# Altium footprint library CapacitoresIntiSat.PCBLIB: 196 footprints (part 6 of 13)
Each footprint in its own frame and in the unit in brackets; x right, y up, seen from the top. Pads: shape width x height; smd on the part's side, far side on the other; paste and mask are expansions set on the pad; w line width, h text height; cw(c..) or ccw(c..) is an arc to the next point about the centre after c.
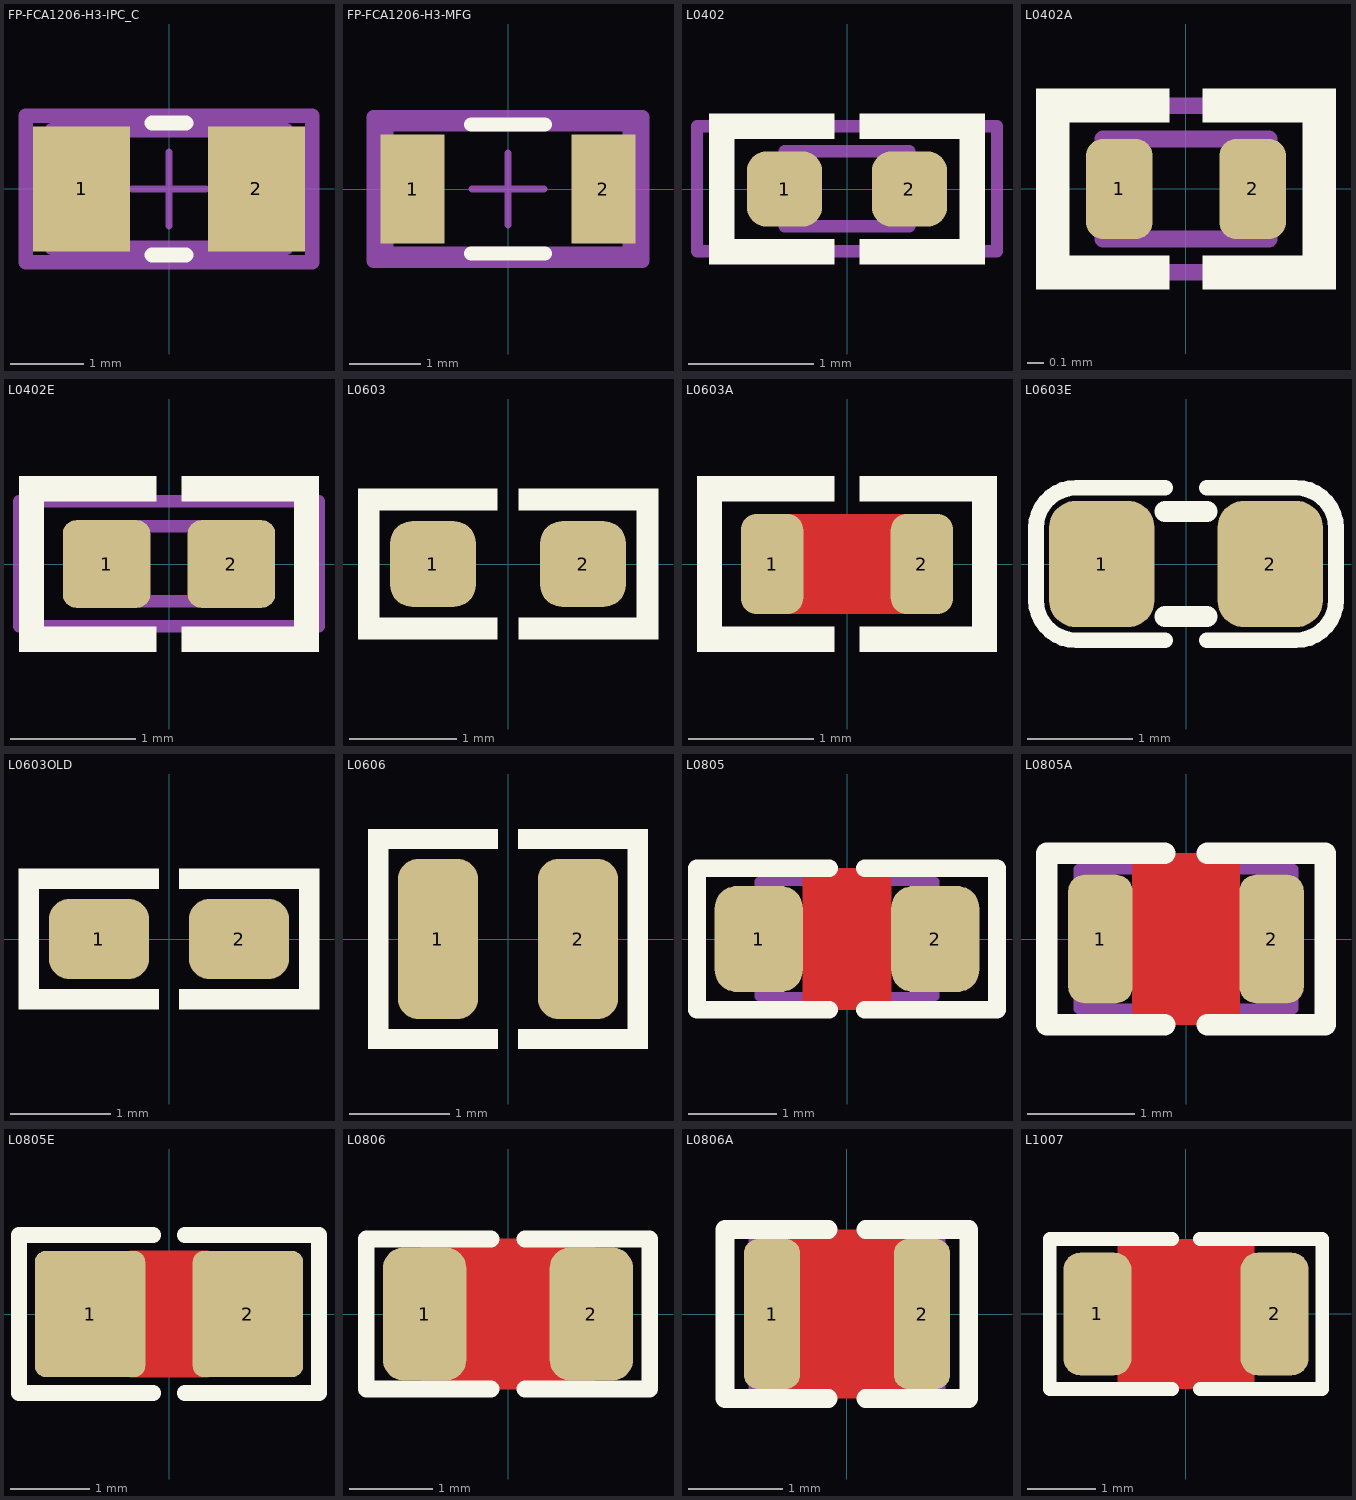
[diagram p5: the footprints below, top view; thin cyan lines are the x and y axes]

## FP-FCA1206-H3-IPC_C [mm]
pads (2):
  rect 1.323x1.71 smd paste+0 mask+0: 1(-1.193,0) 2(1.193,0)
Top Overlay:
  lines w0.2: -0.232,-0.902 0.232,-0.902 ; -0.232,0.902 0.232,0.902
Mechanical 5:
  lines w0.2: -1.955,-1.002 1.955,-1.002 1.955,1.002 -1.955,1.002 -1.955,-1.002
  text ".Designator" at 0,0.188 h1
Mechanical 13:
  lines w0.2: -1.6,-0.8 1.6,-0.8 1.6,0.8 -1.6,0.8 -1.6,-0.8
Mechanical 15:
  lines w0.2: -1.955,-1.002 1.955,-1.002 1.955,1.002 -1.955,1.002 -1.955,-1.002
Mechanical 16:
  lines w0.1: -0.5,0 0.5,0 ; 0,-0.5 0,0.5
3D body "Cap_Cornell_Dubilier_Electronics_FCA1206A105M-H3_eec.STEP": height 0.25, standoff 0, extent -1.955,-1.002 1.955,1.002

## FP-FCA1206-H3-MFG [mil]
pads (2):
  rect 35x60 smd paste+0 mask+0: 1(-52.5,0) 2(52.5,0)
Top Overlay:
  lines w7.87: -20.24,-35.5 20.24,-35.5 ; -20.24,35.5 20.24,35.5
Mechanical 5:
  lines w7.87: -73.94,-39.44 73.94,-39.44 73.94,39.44 -73.94,39.44 -73.94,-39.44
  text ".Designator" at 0,7.39 h39.37
Mechanical 13:
  lines w7.87: -67,-35.5 67,-35.5 67,35.5 -67,35.5 -67,-35.5
Mechanical 15:
  lines w7.87: -73.94,-39.44 73.94,-39.44 73.94,39.44 -73.94,39.44 -73.94,-39.44
Mechanical 16:
  lines w3.94: -19.68,0 19.68,0 ; 0,-19.68 0,19.68
3D body "Cap_Cornell_Dubilier_Electronics_FCA1206A105M-H3_eec.STEP": height 10, standoff 0, extent -73.94,-39.44 73.94,39.44

## L0402 [mm] "INDUCTOR, FERRITE BEAD, 0402, 1.0X0.5mm"
height 0.4
pads (2):
  rrect50% 0.6x0.6 smd mask+0.075: 1(-0.5,0) 2(0.5,0)
Top Overlay:
  region: 0.1,-0.4 0.1,-0.6 1.1,-0.6 1.1,-0.4
  region: 0.1,0.4 0.1,0.6 1.1,0.6 1.1,0.4
  region: 1.1,0.6 0.9,0.6 0.9,-0.6 1.1,-0.6
  region: -1.1,0.6 -0.9,0.6 -0.9,-0.6 -1.1,-0.6
  region: -0.1,0.4 -0.1,0.6 -1.1,0.6 -1.1,0.4
  region: -0.1,-0.4 -0.1,-0.6 -1.1,-0.6 -1.1,-0.4
Mechanical 13:
  lines w0.1: -0.5,-0.3 0.5,-0.3 0.5,0.3 -0.5,0.3 -0.5,-0.3
Mechanical 15:
  lines w0.1: -1.2,-0.5 -1.2,0.5 1.2,0.5 1.2,-0.5 -1.2,-0.5
3D body "User Library-Chip Inductor0402.step": height 0.6, standoff 0, extent -0.5,-0.25 0.5,0.25

## L0402A [mm] "INDUCTOR, FERRITE BEAD, 0402, 1.0X0.5mm"
height 0.4
pads (2):
  rrect50% 0.4x0.6 smd mask+0.075: 1(-0.4,0) 2(0.4,0)
Top Overlay:
  region: 0.1,-0.4 0.1,-0.6 0.9,-0.6 0.9,-0.4
  region: 0.1,0.4 0.1,0.6 0.9,0.6 0.9,0.4
  region: 0.9,0.6 0.7,0.6 0.7,-0.6 0.9,-0.6
  region: -0.9,0.6 -0.7,0.6 -0.7,-0.6 -0.9,-0.6
  region: -0.1,0.4 -0.1,0.6 -0.9,0.6 -0.9,0.4
  region: -0.1,-0.4 -0.1,-0.6 -0.9,-0.6 -0.9,-0.4
Mechanical 13:
  lines w0.1: -0.5,-0.3 -0.5,0.3 0.5,0.3 0.5,-0.3 -0.5,-0.3
Mechanical 15:
  lines w0.1: -0.8,-0.5 0.8,-0.5 0.8,0.5 -0.8,0.5 -0.8,-0.5
3D body "User Library-Chip Inductor0402.step": height 0.6, standoff 0, extent -0.5,-0.25 0.5,0.25

## L0402E [mm] "INDUCTOR, FERRITE BEAD, 0402, 1.0X0.5mm, EXPANDED PAD"
height 0.4
pads (2):
  rrect30% 0.7x0.7 smd mask+0.075: 1(-0.5,0) 2(0.5,0)
Top Overlay:
  region: -1.2,0.7 -1,0.7 -1,-0.7 -1.2,-0.7
  region: -0.1,0.5 -0.1,0.7 -1.2,0.7 -1.2,0.5
  region: -0.1,-0.5 -0.1,-0.7 -1.2,-0.7 -1.2,-0.5
  region: 0.1,-0.5 0.1,-0.7 1.2,-0.7 1.2,-0.5
  region: 0.1,0.5 0.1,0.7 1.2,0.7 1.2,0.5
  region: 1.2,0.7 1,0.7 1,-0.7 1.2,-0.7
Mechanical 13:
  lines w0.1: -0.5,-0.3 0.5,-0.3 0.5,0.3 -0.5,0.3 -0.5,-0.3
Mechanical 15:
  lines w0.1: -1.2,-0.5 -1.2,0.5 1.2,0.5 1.2,-0.5 -1.2,-0.5
3D body "User Library-Chip Inductor0402.step": height 0.6, standoff 0, extent -0.5,-0.25 0.5,0.25

## L0603 [mm] "INDUCTOR, FERRITE BEAD, 0603, 1.6X0.8mm"
height 0.6
pads (2):
  rrect50% 0.8x0.8 smd mask+0.05: 1(-0.7,0) 2(0.7,0)
Top Overlay:
  region: 0.1,-0.5 0.1,-0.7 1.4,-0.7 1.4,-0.5
  region: 0.1,0.5 0.1,0.7 1.4,0.7 1.4,0.5
  region: 1.4,0.7 1.2,0.7 1.2,-0.7 1.4,-0.7
  region: -1.4,0.7 -1.2,0.7 -1.2,-0.7 -1.4,-0.7
  region: -0.1,0.5 -0.1,0.7 -1.4,0.7 -1.4,0.5
  region: -0.1,-0.5 -0.1,-0.7 -1.4,-0.7 -1.4,-0.5
3D body "User Library-Chip Inductor0603.step": height 0.95, standoff 0, extent -0.8,-0.4 0.8,0.4

## L0603A [mm] "INDUCTOR, FERRITE BEAD, 0603, 1.6X0.8mm"
height 0.6
pads (2):
  rrect50% 0.5x0.8 smd mask+0.075: 1(-0.6,0) 2(0.6,0)
Top Layer:
  pour cut-out: -0.5,0.4 0.5,0.4 0.5,-0.4 -0.5,-0.4
Top Overlay:
  region: -1.2,0.7 -1,0.7 -1,-0.7 -1.2,-0.7
  region: -0.1,0.5 -0.1,0.7 -1.2,0.7 -1.2,0.5
  region: -0.1,-0.5 -0.1,-0.7 -1.2,-0.7 -1.2,-0.5
  region: 0.1,-0.5 0.1,-0.7 1.2,-0.7 1.2,-0.5
  region: 0.1,0.5 0.1,0.7 1.2,0.7 1.2,0.5
  region: 1.2,0.7 1,0.7 1,-0.7 1.2,-0.7
3D body "User Library-Chip Inductor0603.step": height 0.95, standoff 0, extent -0.8,-0.4 0.8,0.4

## L0603E [mm] "INDUCTOR, FERRITE BEAD, 0603, 1.6X0.8mm, EXPANDED PAD"
height 0.6
pads (2):
  rrect50% 1x1.2 smd mask+0.05: 1(-0.8,0) 2(0.8,0)
Top Overlay:
  lines w0.15: -0.2,-0.725 -1.042,-0.725 cw(c-1.042,-0.342) -1.425,-0.342 -1.425,0.342 cw(c-1.042,0.342) -1.042,0.725 -0.2,0.725 ; 0.2,-0.725 1.042,-0.725 ccw(c1.042,-0.342) 1.425,-0.342 1.425,0.342 ccw(c1.042,0.342) 1.042,0.725 0.2,0.725
  lines w0.2: -0.2,-0.5 0.2,-0.5 ; -0.2,0.5 0.2,0.5
3D body "User Library-Chip Inductor0603.step": height 0.95, standoff 0, extent -0.8,-0.4 0.8,0.4

## L0603OLD [mm] "INDUCTOR, FERRITE BEAD, 0603, 1.6X0.8mm"
height 0.6
pads (2):
  rrect50% 1x0.8 smd mask+0.05: 1(-0.7,0) 2(0.7,0)
Top Overlay:
  region: 0.1,-0.5 0.1,-0.7 1.5,-0.7 1.5,-0.5
  region: 0.1,0.5 0.1,0.7 1.5,0.7 1.5,0.5
  region: 1.5,0.7 1.3,0.7 1.3,-0.7 1.5,-0.7
  region: -1.5,0.7 -1.3,0.7 -1.3,-0.7 -1.5,-0.7
  region: -0.1,0.5 -0.1,0.7 -1.5,0.7 -1.5,0.5
  region: -0.1,-0.5 -0.1,-0.7 -1.5,-0.7 -1.5,-0.5
3D body "User Library-Chip Inductor0603.step": height 0.95, standoff 0, extent -0.8,-0.4 0.8,0.4

## L0606 [mm] "INDUCTOR, FERRITE BEAD, 0603, 1.6X1.6mm"
height 0.6
pads (2):
  rrect50% 0.8x1.6 smd mask+0.05: 1(-0.7,0) 2(0.7,0)
Top Overlay:
  region: -0.1,-0.9 -0.1,-1.1 -1.4,-1.1 -1.4,-0.9
  region: -0.1,0.9 -0.1,1.1 -1.4,1.1 -1.4,0.9
  region: -1.4,1.1 -1.2,1.1 -1.2,-1.1 -1.4,-1.1
  region: 1.4,1.1 1.2,1.1 1.2,-1.1 1.4,-1.1
  region: 0.1,0.9 0.1,1.1 1.4,1.1 1.4,0.9
  region: 0.1,-0.9 0.1,-1.1 1.4,-1.1 1.4,-0.9
3D body: height 0.1, standoff 0, extent 0.3,-0.8 0.7,0.8
3D body: height 0.1, standoff 0, extent -0.7,-0.8 -0.3,0.8
3D body: height 0.3, standoff 0.1, extent -0.8,-0.8 0.8,0.8
3D body: height 0.7, standoff 0.1, extent -0.5,-0.5 0.5,0.5
3D body: height 1, standoff 0.7, extent -0.8,-0.8 0.8,0.8

## L0805 [mm] "INDUCTOR, FERRITE BEAD, 0805, 2.0X1.3mm"
pads (2):
  rrect50% 1x1.2 smd mask+0.075: 1(-1,0) 2(1,0)
Top Layer:
  pour cut-out: -0.5,0.8 0.5,0.8 0.5,-0.8 -0.5,-0.8
Top Overlay:
  lines w0.2: -0.2,-0.8 -1.7,-0.8 -1.7,0.8 -0.2,0.8 ; 0.2,-0.8 1.7,-0.8 1.7,0.8 0.2,0.8
Mechanical 13:
  lines w0.1: -1,-0.65 1,-0.65 1,0.65 -1,0.65 -1,-0.65
3D body "User Library-ind_0805.step": height 0.95, standoff 0, extent -1,-0.6 1,0.6

## L0805A [mm] "INDUCTOR, 2.0X1.3mm, 0805, for PCBA"
pads (2):
  rrect50% 0.6x1.2 smd mask+0.075: 1(-0.8,0) 2(0.8,0)
Top Layer:
  pour cut-out: -0.5,0.8 0.5,0.8 0.5,-0.8 -0.5,-0.8
Top Overlay:
  lines w0.2: -0.2,-0.8 -1.3,-0.8 -1.3,0.8 -0.2,0.8 ; 0.2,-0.8 1.3,-0.8 1.3,0.8 0.2,0.8
Mechanical 13:
  lines w0.1: -1,-0.65 1,-0.65 1,0.65 -1,0.65 -1,-0.65
3D body "User Library-ind_0805.step": height 0.95, standoff 0, extent -1,-0.6 1,0.6

## L0805E [mm] "INDUCTOR, FERRITE BEAD, 0805, EXPANDED PAD"
pads (2):
  rrect20% 1.4x1.6 smd mask+0.1: 1(-1,0) 2(1,0)
Top Layer:
  pour cut-out: -0.5,0.8 0.5,0.8 0.5,-0.8 -0.5,-0.8
Top Overlay:
  lines w0.2: -0.2,-1 -1.9,-1 -1.9,1 -0.2,1 ; 0.2,-1 1.9,-1 1.9,1 0.2,1
3D body "User Library-ind_0805.step": height 0.95, standoff 0, extent -1,-0.6 1,0.6

## L0806 [mm] "INDUCTOR, 2016, 0806, 2.0X1.6mm"
height 1
pads (2):
  rrect50% 1x1.6 smd mask+0.075: 1(-1,0) 2(1,0)
Top Layer:
  pour cut-out: -0.7,0.9 0.7,0.9 0.7,-0.9 -0.7,-0.9
Top Overlay:
  lines w0.2: -0.2,-0.9 -1.7,-0.9 -1.7,0.9 -0.2,0.9 ; 0.2,-0.9 1.7,-0.9 1.7,0.9 0.2,0.9
Mechanical 13:
  lines w0.1: -1,-0.8 1,-0.8 1,0.8 -1,0.8 -1,-0.8
3D body: height 0.1, standoff 0, extent 0.5,-0.8 1,0.8
3D body: height 1, standoff 0, extent 0.6,-0.8 1,0.8
3D body: height 1, standoff 0, extent -1,-0.8 -0.6,0.8
3D body: height 1, standoff 0.1, extent -0.6,-0.8 0.6,0.8
3D body: height 0.1, standoff 0, extent -1,-0.8 -0.5,0.8

## L0806A [mm] "INDUCTOR, 2016, 0806, 2.0X1.6mm"
height 1
pads (2):
  rrect50% 0.6x1.6 smd mask+0.075: 1(-0.8,0) 2(0.8,0)
Top Layer:
  pour cut-out: -0.7,0.9 0.7,0.9 0.7,-0.9 -0.7,-0.9
Top Overlay:
  lines w0.2: -0.2,-0.9 -1.3,-0.9 -1.3,0.9 -0.2,0.9 ; 0.2,-0.9 1.3,-0.9 1.3,0.9 0.2,0.9
Mechanical 13:
  lines w0.1: -1,-0.8 1,-0.8 1,0.8 -1,0.8 -1,-0.8
3D body: height 0.1, standoff 0, extent 0.5,-0.8 1,0.8
3D body: height 1, standoff 0, extent 0.6,-0.8 1,0.8
3D body: height 1, standoff 0, extent -1,-0.8 -0.6,0.8
3D body: height 1, standoff 0.1, extent -0.6,-0.8 0.6,0.8
3D body: height 0.1, standoff 0, extent -1,-0.8 -0.5,0.8

## L1007 [mm] "INDUCTOR, 2518 [1007], 2.5X1.8mm"
height 1.8
pads (2):
  rrect50% 1x1.8 smd mask+0.075: 1(-1.3,0) 2(1.3,0)
Top Layer:
  pour cut-out: -1,1.1 -1,-1.1 1,-1.1 1,1.1
Top Overlay:
  lines w0.2: -0.2,-1.1 -2,-1.1 -2,1.1 -0.2,1.1 ; 0.2,-1.1 2,-1.1 2,1.1 0.2,1.1
3D body: height 1.2, standoff 0, extent 1.2,-0.9 1.25,0.9
3D body: height 0.05, standoff 0, extent 0.65,-0.9 1.25,0.9
3D body: height 0.05, standoff 0, extent -1.25,-0.9 -0.65,0.9
3D body: height 1.2, standoff 0, extent -1.25,-0.9 -1.2,0.9
3D body: height 1.2, standoff 0.05, extent -1.2,-0.9 1.2,0.9